# Altium schematic symbol library MicroSD.Schlib: 1 symbol
Pins are listed as number, name and electrical type; pins without a type are passive.

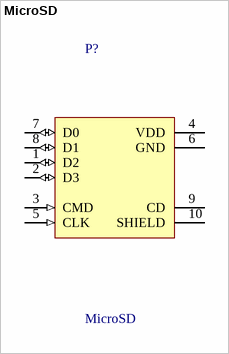
[diagram p0: symbol MicroSD]

## MicroSD
designator P?
Micro SD Card Connector
pins: 1 D2 (io), 2 D3 (io), 3 CMD (in), 4 VDD (power), 5 CLK (in), 6 GND (power), 7 D0 (io), 8 D1 (io), 9 CD, 10 SHIELD (power)